# Altium footprint library Sensor_Schematic.PcbLib: 6 footprints
Each footprint in its own frame and in the unit in brackets; x right, y up, seen from the top. Pads: shape width x height; smd on the part's side, far side on the other; paste and mask are expansions set on the pad; w line width, h text height; cw(c..) or ccw(c..) is an arc to the next point about the centre after c.
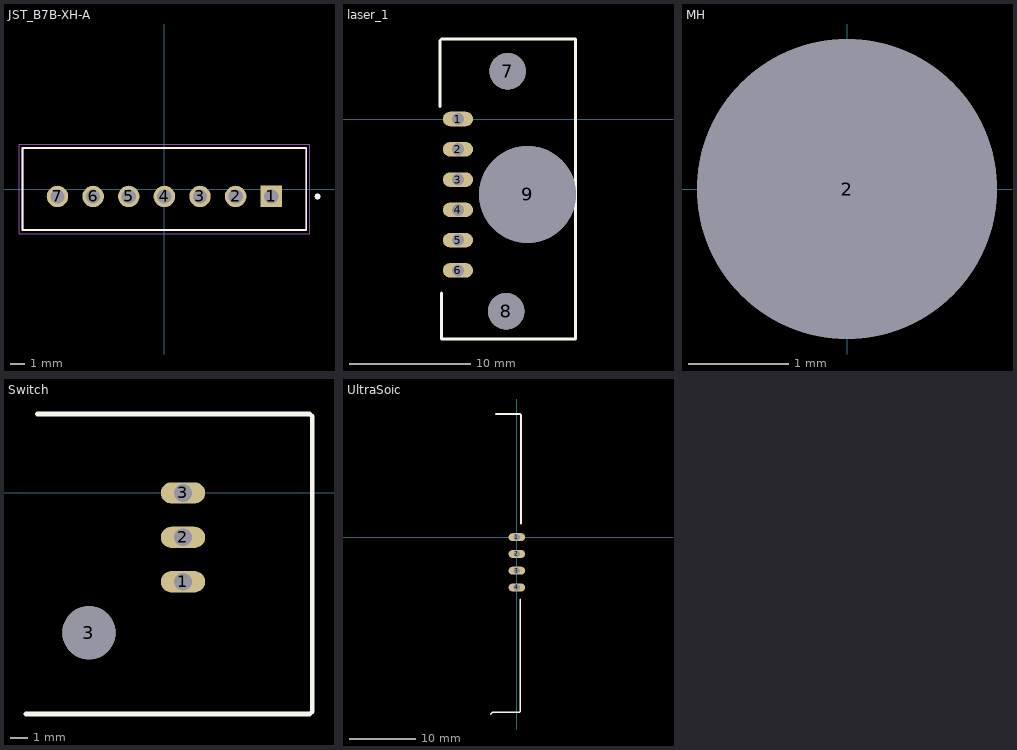
[diagram p0: the footprints below, top view; thin cyan lines are the x and y axes]

## JST_B7B-XH-A [mm]
height 7
pads (7):
  rect 1.508x1.508 / inner round 1.508 / far side rect 1.508x1.508 hole 1: 1(7.5,-0.525)
  round 1.508 hole 1: 2(5,-0.525) 3(2.5,-0.525) 4(0,-0.525) 5(-2.5,-0.525) 6(-5,-0.525) 7(-7.5,-0.525)
Top Overlay:
  circle w0.2: c10.75,-0.525 r0.1
  lines w0.127: -9.95,-2.875 9.95,-2.875 9.95,2.875 -9.95,2.875 -9.95,-2.875
Mechanical 13:
  circle w0.2: c10.75,-0.525 r0.1
  lines w0.127: -9.95,-2.875 9.95,-2.875 9.95,2.875 -9.95,2.875 -9.95,-2.875
Mechanical 15:
  lines w0.05: -10.2,-3.125 10.2,-3.125 10.2,3.125 -10.2,3.125 -10.2,-3.125
3D body "step_temp.STEP": height 7, standoff -3.4, extent -9.95,-2.875 9.95,2.875

## laser_1 [mm]
pads (9):
  oval 2.5x1.2 hole 1: 1(15.2,0) 2(15.2,-2.5) 3(15.2,-5) 4(15.2,-7.5) 5(15.2,-10) 6(15.2,-12.5)
  round 3 hole 3 paste-2539.97 mask-2539.97: 7(19.304,3.937) 8(19.177,-15.875)
  round 8 hole 8 square paste-2539.97 mask-2539.97: 9(20.955,-6.223)
Top Overlay:
  lines w0.254: 13.716,1.016 13.716,6.477 13.843,6.604 24.892,6.604 24.892,-18.161 13.843,-18.161 13.843,-14.351
  text ".Designator" at 17.553,-5.64 h0.52
Top Solder:
  lines w1.2: 18.527,-15.875 19.827,-15.875 ; 18.654,3.937 19.954,3.937 ; 20.305,-6.223 21.605,-6.223
Bottom Solder:
  lines w1.2: 18.527,-15.875 19.827,-15.875 ; 18.654,3.937 19.954,3.937 ; 20.305,-6.223 21.605,-6.223
3D body "vl53l0x.stp": height 3.51, standoff 0.01, extent 13.55,-18.469 24.55,6.231

## MH [mm]
pads (1):
  round 3 hole 3: 2(0,0)

## PCBComponent_1 [mm]

## Switch [mm]
pads (4):
  oval 2.5x1.2 hole 1: 1(15.2,-5) 2(15.2,-2.5) 3(15.2,0)
  round 3 hole 3: 3(9.906,-7.874)
Top Overlay:
  lines w0.254: 6.35,-12.446 22.352,-12.446 22.479,-12.319 22.479,4.318 22.352,4.445 6.985,4.445
  text ".Designator" at -0.1,-4.243 h0.52
3D body "ENDSTOP YL-99 v1.step": height 5.97, standoff -1.23, extent -13.674,-12.446 22.31,4.385

## UltraSoic [mm]
pads (4):
  oval 2.5x1.2 hole 1: 1(0,0) 2(0,-2.54) 3(0,-5.08) 4(0,-7.62)
Top Overlay:
  lines w0.254: -3.937,-26.797 -3.683,-26.543 0.381,-26.543 0.508,-26.416 0.508,-9.398 ; -3.175,18.669 0.508,18.669 0.635,18.542 0.635,2.032
  text ".Designator" at -13.562,-0.814 h0.52
3D body "hc-sr04.STEP": height 20.61, standoff -5.14, extent -18.419,-26.531 0.131,18.669